# Altium schematic symbol library Device Schematics.SchLib: 11 symbols
Pins are listed as number, name and electrical type; pins without a type are passive.

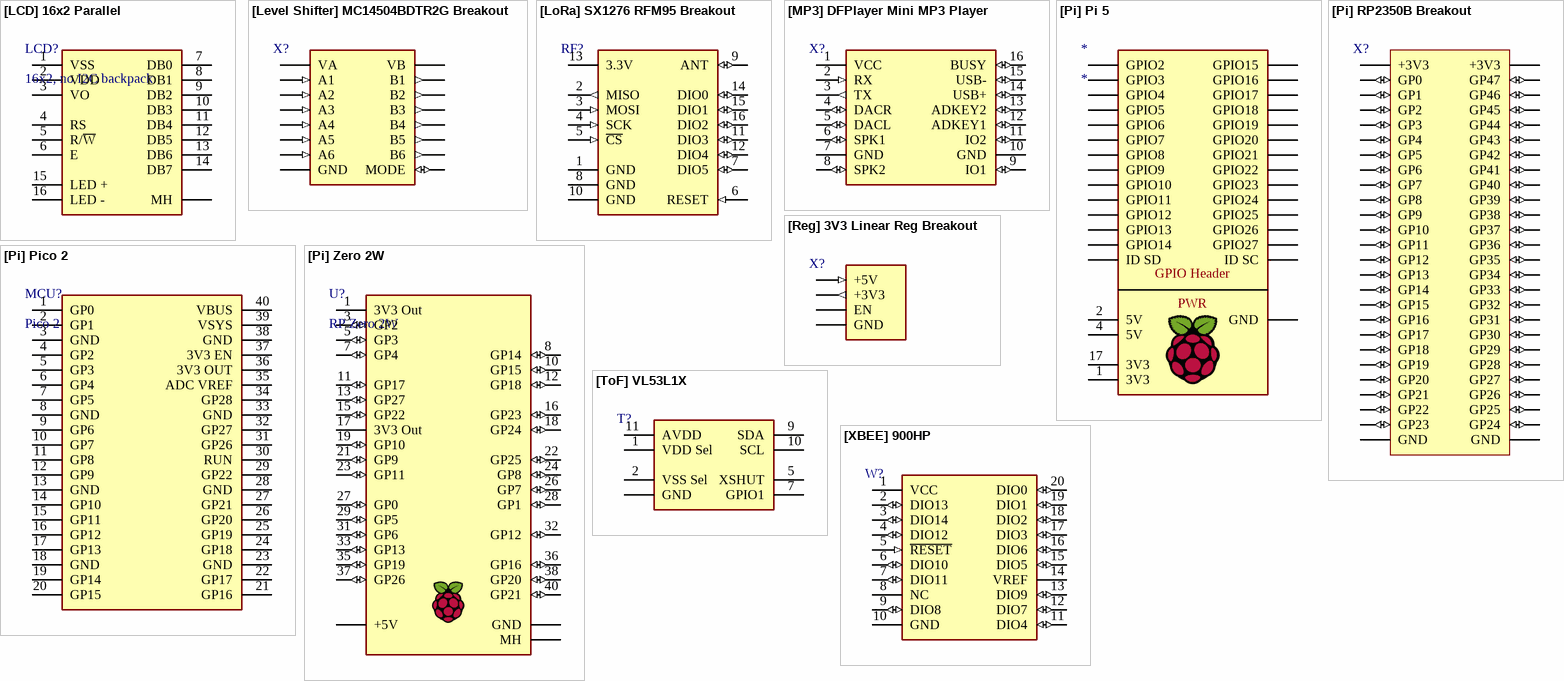
[diagram p0: symbols [LCD] 16x2 Parallel to [XBEE] 900HP]

## [LCD] 16x2 Parallel
designator LCD?, comment 16x2, no I2C backpack
Sunfounder
footprint [LCD] 16x2 Parallel
pins: 1 VSS, 2 VDD, 3 VO, 4 RS, 5 R/~{W}, 6 E, 7 DB0, 8 DB1, 9 DB2, 10 DB3, 11 DB4, 12 DB5, 13 DB6, 14 DB7, 15 LED +, 16 LED -, MH

## [Level Shifter] MC14504BDTR2G Breakout
designator X?  (value not drawn)
Custom MIL Part; Supplier 1: DigiKey; Supplier Part Number 1: MC14504BDTR2GOSCT-ND
footprint [Level Shifter] MC14504BDTR2G Breakout
pins: 1 VA (power), 2 A1 (in), 3 A2 (in), 4 A3 (in), 5 A4 (in), 6 A5 (in), 7 A6 (in), 8 GND (power), 9 MODE (io), 10 B6 (out), 11 B5 (out), 12 B4 (out), 13 B3 (out), 14 B2 (out), 15 B1 (out), 16 VB (power)

## [LoRa] SX1276 RFM95 Breakout
designator RF?  (value not drawn)
ComponentLink1Description: Amazon Link; ComponentLink1URL: https://www.amazon.com/Lubeby-Smart-Original-915Mhz-Transceiver/dp/B0BHLK9FC9; ComponentLink2Description: Makerfabs Link; ComponentLink2URL: https://www.makerfabs.com/sx1276-lora-module-915mhz-rfm95.html
footprint [LoRa] SX1276 RFM95 Breakout
pins: 1 GND (power), 2 MISO (out), 3 MOSI (in), 4 SCK (in), 5 ~{CS} (in), 6 RESET (in), 7 DIO5 (io), 8 GND (power), 9 ANT (io), 10 GND (power), 11 DIO3 (io), 12 DIO4 (io), 13 3.3V (power), 14 DIO0 (io), 15 DIO1 (io), 16 DIO2 (io)

## [MP3] DFPlayer Mini MP3 Player
designator X?  (value not drawn)
DFR0299; Supplier 1: DigiKey; Supplier Part Number 1: 1738-1041-ND
footprint [MP3] DFPlayer Mini MP3 Player
pins: 1 VCC (power), 2 RX (in), 3 TX (out), 4 DACR (io), 5 DACL (io), 6 SPK1 (io), 7 GND (power), 8 SPK2 (io), 9 IO1 (io), 10 GND (power), 11 IO2 (io), 12 ADKEY1 (io), 13 ADKEY2 (io), 14 USB+ (io), 15 USB- (io), 16 BUSY (io)

## [Pi] Pi 5
designator *
footprint [Pi] Pi 5
pins: 1 3V3, 2 5V, 3 GPIO2, 4 5V, 5 GPIO3, 7 GPIO4, 8 GPIO14, 10 GPIO15, 11 GPIO17, 12 GPIO18, 13 GPIO27, 15 GPIO22, 16 GPIO23, 17 3V3, 18 GPIO24, 19 GPIO10, 21 GPIO9, 22 GPIO25, 23 GPIO11, 24 GPIO7, 26 GPIO8, 27 ID SD, 28 ID SC, 29 GPIO5, 31 GPIO6, 32 GPIO12, 33 GPIO13, 35 GPIO19, 36 GPIO16, 37 GPIO26, 38 GPIO20, 40 GPIO21, GND
text: GPIO Header; PWR

## [Pi] Pico 2
designator MCU?, comment Pico 2
SC1631; Supplier 1: DigiKey; Supplier Part Number 1: 2648-SC1631TR-ND
footprint [Pi] Pico 2
pins: 1 GP0, 2 GP1, 3 GND, 4 GP2, 5 GP3, 6 GP4, 7 GP5, 8 GND, 9 GP6, 10 GP7, 11 GP8, 12 GP9, 13 GND, 14 GP10, 15 GP11, 16 GP12, 17 GP13, 18 GND, 19 GP14, 20 GP15, 21 GP16, 22 GP17, 23 GND, 24 GP18, 25 GP19, 26 GP20, 27 GP21, 28 GND, 29 GP22, 30 RUN, 31 GP26, 32 GP27, 33 GND, 34 GP28, 35 ADC VREF, 36 3V3 OUT, 37 3V3 EN, 38 GND, 39 VSYS, 40 VBUS

## [Pi] RP2350B Breakout
designator X?, comment RP2350  (value not drawn)
Custom MIL Part
footprint [Pi] RP2350B Breakout
pins: 1 +3V3 (power), 2 GP0 (io), 3 GP1 (io), 4 GP2 (io), 5 GP3 (io), 6 GP4 (io), 7 GP5 (io), 8 GP6 (io), 9 GP7 (io), 10 GP8 (io), 11 GP9 (io), 12 GP10 (io), 13 GP11 (io), 14 GP12 (io), 15 GP13 (io), 16 GP14 (io), 17 GP15 (io), 18 GP16 (io), 19 GP17 (io), 20 GP18 (io), 21 GP19 (io), 22 GP20 (io), 23 GP21 (io), 24 GP22 (io), 25 GP23 (io), 26 GND (power), 27 GND (power), 28 GP24 (io), 29 GP25 (io), 30 GP26 (io), 31 GP27 (io), 32 GP28 (io), 33 GP29 (io), 34 GP30 (io), 35 GP31 (io), 36 GP32 (io), 37 GP33 (io), 38 GP34 (io), 39 GP35 (io), 40 GP36 (io), 41 GP37 (io), 42 GP38 (io), 43 GP39 (io), 44 GP40 (io), 45 GP41 (io), 46 GP42 (io), 47 GP43 (io), 48 GP44 (io), 49 GP45 (io), 50 GP46 (io), 51 GP47 (io), 52 +3V3 (power)

## [Pi] Zero 2W
designator U?, comment RP Zero 2W
footprint [Pi] Zero 2W
pins: 1 3V3 Out (power), 3 GP2 (io), 5 GP3 (io), 7 GP4 (io), 8 GP14 (io), 10 GP15 (io), 11 GP17 (io), 12 GP18 (io), 13 GP27 (io), 15 GP22 (io), 16 GP23 (io), 17 3V3 Out (power), 18 GP24 (io), 19 GP10 (io), 21 GP9 (io), 22 GP25 (io), 23 GP11 (io), 24 GP8 (io), 26 GP7 (io), 27 GP0 (io), 28 GP1 (io), 29 GP5 (io), 31 GP6 (io), 32 GP12 (io), 33 GP13 (io), 35 GP19 (io), 36 GP16 (io), 37 GP26 (io), 38 GP20 (io), 40 GP21 (io), +5V (power), GND (power), MH (power)

## [Reg] 3V3 Linear Reg Breakout
designator X?  (value not drawn)  (no BOM)
Custom MIL Part
footprint [Reg] 3V3 Linear Reg Breakout
pins: 1 +5V (in), 2 +3V3 (out), 3 EN, 4 GND

## [ToF] VL53L1X
designator T?  (value not drawn)
VL53L1CXV0FY/1; Supplier 1: DigiKey; Supplier Part Number 1: 497-17764-1-ND
footprint [ToF] VL53L1X (VL53L1CXV0FY/1)
pins: 1 VDD Sel (power), 2 VSS Sel (power), 5 XSHUT, 7 GPIO1, 9 SDA, 10 SCL, 11 AVDD (power), GND (power)

## [XBEE] 900HP
designator W?  (value not drawn)
XBP9B-DMST-002; Supplier 1: DigiKey; Supplier Part Number 1: 602-1299-ND
footprint [XBEE] 900HP
pins: 1 VCC (power), 2 DIO13 (io), 3 DIO14 (io), 4 DIO12 (io), 5 ~{RESET} (in), 6 DIO10 (io), 7 DIO11 (io), 8 NC, 9 DIO8 (io), 10 GND (power), 11 DIO4 (io), 12 DIO7 (io), 13 DIO9 (io), 14 VREF (power), 15 DIO5 (io), 16 DIO6 (io), 17 DIO3 (io), 18 DIO2 (io), 19 DIO1 (io), 20 DIO0 (io)